# EAGLE library part NJM2880 (library den)
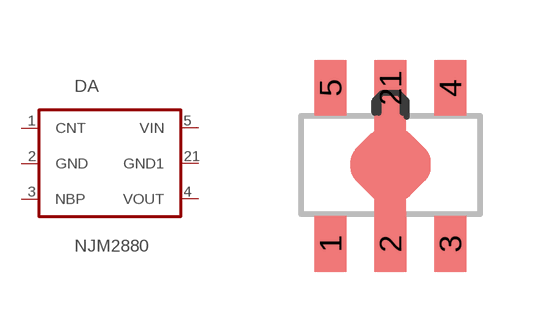
[diagram p31: symbol with the pads of SOT89-5; footprint SOT89-5]

Designator prefix DA

## NJM2880  [SOT89-5]
1  CNT
2  GND
3  NBP
4  VOUT
5  VIN
21  GND1

## Footprint SOT89-5 (pad centres in mm)
smd 0.8 x 1.4: 1 -1.499,-1.981; 2 0,-1.981; 3 1.499,-1.981; 4 1.499,1.919; 5 -1.499,1.919; 21 0,1.919